# EAGLE library part DIP-RES-NETWOR-10K-OHM(6P-2.54-15.2X2.5X5.1MM) (library Seeed-OPL-Resistor)
301030031
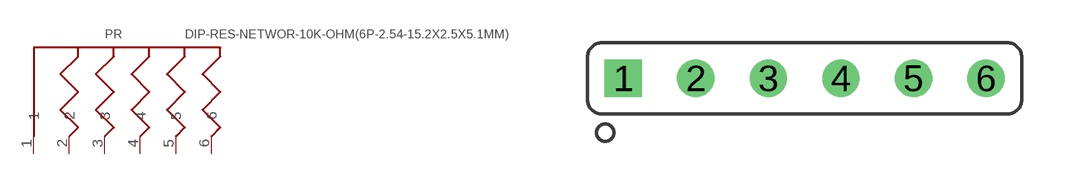
[diagram p5: symbol with the pads of PR6-2.54-15.2X2.5X5.1MM; footprint PR6-2.54-15.2X2.5X5.1MM]

Designator prefix PR

## DIP-RES-NETWOR-10K-OHM(6P-2.54-15.2X2.5X5.1MM) (MPN: 4606X-101-RC; VALUE: 4606X-101-RC)  [PR6-2.54-15.2X2.5X5.1MM]
1  1
2  2
3  3
4  4
5  5
6  6

## Footprint PR6-2.54-15.2X2.5X5.1MM (pad centres in mm)
drill 0.8 square: 1 -6.35,0
drill 0.8: 2 -3.81,0; 3 -1.27,0; 4 1.27,0; 5 3.81,0; 6 6.35,0